# Altium footprint library LGA-14.PcbLib: 1 footprints
Each footprint in its own frame and in the unit in brackets; x right, y up, seen from the top. Pads: shape width x height; smd on the part's side, far side on the other; paste and mask are expansions set on the pad; w line width, h text height; cw(c..) or ccw(c..) is an arc to the next point about the centre after c.
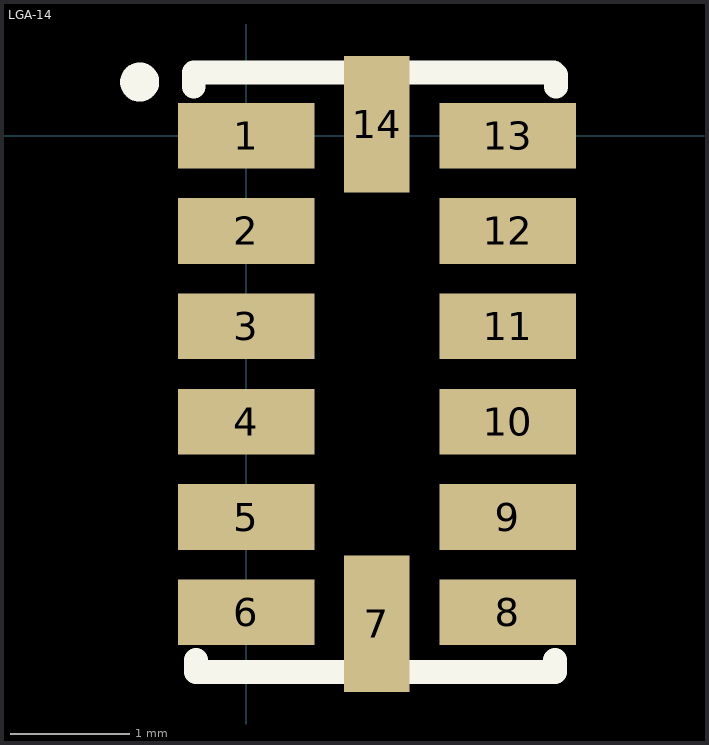
[diagram p0: the footprint, top view; thin cyan lines are the x and y axes]

## LGA-14 [mm]
pads (14):
  rect 1.145x0.55 smd: 1(0,0) 2(0,-0.8) 3(0,-1.6) 4(0,-2.4) 5(0,-3.2) 6(0,-4) 8(2.195,-4) 9(2.195,-3.2) 10(2.195,-2.4) 11(2.195,-1.6) 12(2.195,-0.8) 13(2.195,0)
  rect 0.55x1.145 smd: 7(1.098,-4.098) 14(1.098,0.098)
TopOverlay:
  circle w0.2: c-0.894,0.45 r0.064
  lines w0.2: -0.44,0.41 -0.44,0.53 2.58,0.53 2.6,0.51 2.6,0.41 ; -0.42,-4.4 -0.42,-4.5 2.59,-4.5 2.59,-4.4
3D body: height 1, standoff 0, extent -0.403,-4.5 2.598,0.5